# Altium integrated library led_drivers.IntLib: 1 symbol
Pins are listed as number, name and electrical type; pins without a type are passive.

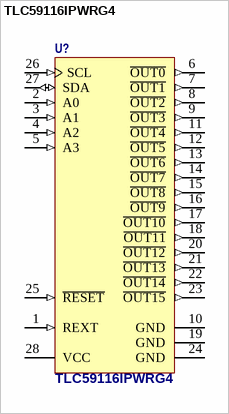
[diagram p0: symbol TLC59116IPWRG4]

## TLC59116IPWRG4
designator U?
16-Bit Fast-Mode Plus (FM+) I2C Bus Constant-Current LED Sink Driver, 3 to 5.5 V, -40 to 85 degC, 28-pin SOP (PW28), Green (RoHS & no Sb/Br); Manufacturer: Texas Instruments; Rating: Catalog; SubFamily: LED Driver; Vin(Max)(V): 5.5; Vin(Min)(V): 3; DatasheetVersion: SLDS157D; PackageVersion: 4040064-7/G; PackageReference: PW28; PackageDescription: 28-Pin Plastic Small Outline, Body 9.7 x 4.4 mm, Pitch 0.65 mm; Supplier 1: Digi-Key; Supplier Part Number 1: TLC59116IPWRG4-ND; Supplier 2: Mouser; Supplier Part Number 2: 595-TLC59116IPWRG4; Eco-Plan: Green (RoHS & no Sb/Br); Mounting Technology: Surface Mount; Code_JEDEC: MO-153; PartNumber: TLC59116IPWRG4; ComponentLink1Description: Manufacturer URL; ComponentLink1URL: http://www.ti.com/; ComponentLink2Description: Datasheet; ComponentLink2URL: http://www.ti.com/general/docs/lit/getliterature.tsp?genericPartNumber=TLC59116&fileType=pdf; ComponentLink3Description: Package Specification; ComponentLink3URL: http://www.ti.com/litv/pdf/mpds364
footprint TSSOP28 (JEDEC MO-153 AE (TSSOP-28))
pins: 1 REXT (in) "Input terminal used to connect an external resistor for setting up all output currents", 2 A0 (in) "Address input 0", 3 A1 (in) "Address input 1", 4 A2 (in) "Address input 2", 5 A3 (in) "Address input 3", 6 ~{OUT0} (out) "Constant current output 0", 7 ~{OUT1} (out) "Constant current output 1", 8 ~{OUT2} (out) "Constant current output 2", 9 ~{OUT3} (out) "Constant current output 3", 10 GND (power) "Ground", 11 ~{OUT4} (out) "Constant current output 4", 12 ~{OUT5} (out) "Constant current output 5", 13 ~{OUT6} (out) "Constant current output 6", 14 ~{OUT7} (out) "Constant current output 7", 15 ~{OUT8} (out) "Constant current output 8", 16 ~{OUT9} (out) "Constant current output 9", 17 ~{OUT10} (out) "Constant current output 10", 18 ~{OUT11} (out) "Constant current output 11", 19 GND (power) "Ground", 20 ~{OUT12} (out) "Constant current output 12", 21 ~{OUT13} (out) "Constant current output 13", 22 ~{OUT14} (out) "Constant current output 14", 23 ~{OUT15} (out) "Constant current output 15", 24 GND (power) "Ground", 25 ~{RESET} (in) "Active-low reset input", 26 SCL (in) "Serial clock input", 27 SDA (io) "Serial data input/output", 28 VCC (power) "Power supply"